# EAGLE library part SERVO5X (library CONNECTORS)
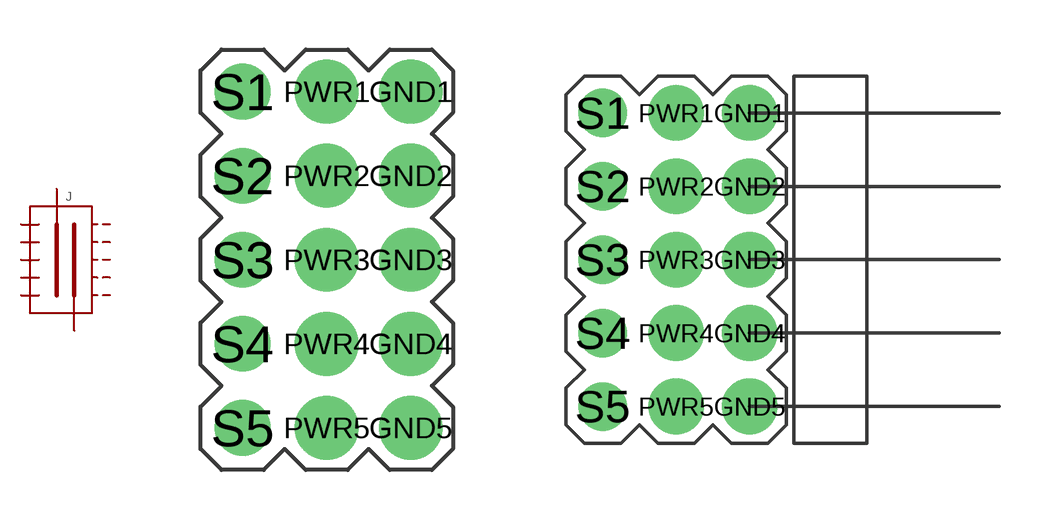
[diagram p1: symbol with the pads of SERVO5XVERT; footprints SERVO5XVERT, SERVO5XRT]

Designator prefix J

## SERVO5XVERT  [SERVO5XVERT]
GND1  GND
GND2  GND
GND3  GND
GND4  GND
GND5  GND
PWR1  POWER
PWR2  POWER
PWR3  POWER
PWR4  POWER
PWR5  POWER
S1  S1
S2  S2
S3  S3
S4  S4
S5  S5

## SERVO5XRT  [SERVO5XRT]
Pads as for SERVO5XVERT

## Footprint SERVO5XVERT (pad centres in mm)
drill 1 pad 1.93: GND1 2.54,5.08; GND2 2.54,2.54; GND3 2.54,0; GND4 2.54,-2.54; GND5 2.54,-5.08; PWR1 0,5.08; PWR2 0,2.54; PWR3 0,0; PWR4 0,-2.54; PWR5 0,-5.08
drill 1 pad 1.676: S1 -2.54,5.08; S2 -2.54,2.54; S3 -2.54,0; S4 -2.54,-2.54; S5 -2.54,-5.08

## Footprint SERVO5XRT (pad centres in mm)
drill 1 pad 1.93: GND1 2.54,5.08; GND2 2.54,2.54; GND3 2.54,0; GND4 2.54,-2.54; GND5 2.54,-5.08; PWR1 0,5.08; PWR2 0,2.54; PWR3 0,0; PWR4 0,-2.54; PWR5 0,-5.08
drill 1 pad 1.676: S1 -2.54,5.08; S2 -2.54,2.54; S3 -2.54,0; S4 -2.54,-2.54; S5 -2.54,-5.08